# Altium footprint library LoRa Modules.PcbLib: 2 footprints
Each footprint in its own frame and in the unit in brackets; x right, y up, seen from the top. Pads: shape width x height; smd on the part's side, far side on the other; paste and mask are expansions set on the pad; w line width, h text height; cw(c..) or ccw(c..) is an arc to the next point about the centre after c.
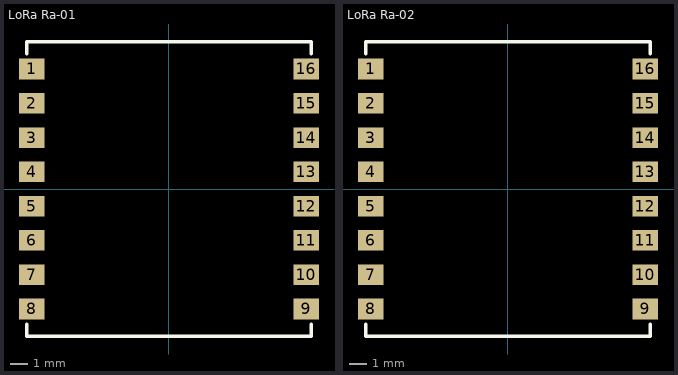
[diagram p0: the footprints below, top view; thin cyan lines are the x and y axes]

## LoRa Ra-01 [mm] "Transceiver"
pads (16):
  rect 1.5x1.2 smd: 1(-8,7) 2(-8,5) 3(-8,3) 4(-8,1) 5(-8,-1) 6(-8,-3) 7(-8,-5) 8(-8,-7) 9(8,-7) 10(8,-5) 11(8,-3) 12(8,-1) 13(8,1) 14(8,3) 15(8,5) 16(8,7)
Top Overlay:
  lines w0.2: -8.3,-7.9 -8.3,-8.6 8.3,-8.6 8.3,-7.9 ; -8.3,7.9 -8.3,8.6 8.3,8.6 8.3,7.9
3D body "RA-02.step": height 3.2, standoff 0, extent -8,-8.5 8,8.5

## LoRa Ra-02 [mm] "Transceiver"
pads (16):
  rect 1.5x1.2 smd: 1(-8,7) 2(-8,5) 3(-8,3) 4(-8,1) 5(-8,-1) 6(-8,-3) 7(-8,-5) 8(-8,-7) 9(8,-7) 10(8,-5) 11(8,-3) 12(8,-1) 13(8,1) 14(8,3) 15(8,5) 16(8,7)
Top Overlay:
  lines w0.2: -8.3,-7.9 -8.3,-8.6 8.3,-8.6 8.3,-7.9 ; -8.3,7.9 -8.3,8.6 8.3,8.6 8.3,7.9
3D body "RA-02.step": height 3.2, standoff 0, extent -8,-8.5 8,8.5